# EAGLE library part L3GD20_SET (library L3GD20_set)
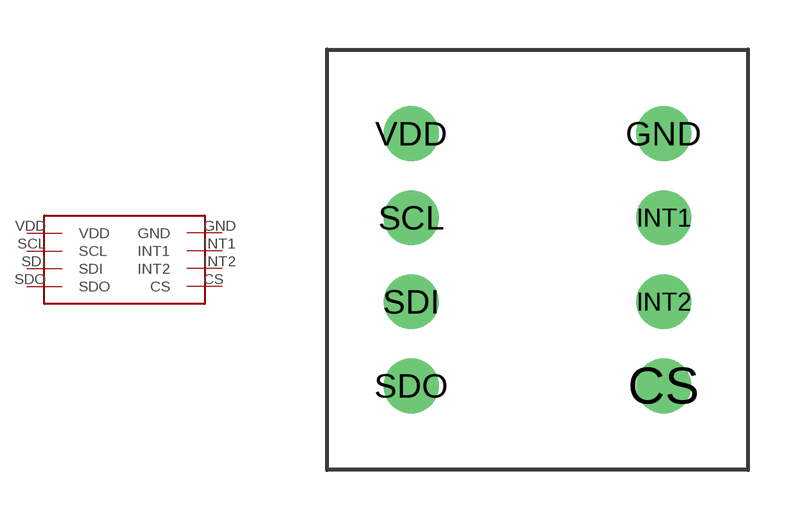
[diagram p0: symbol with the pads of L3GD20_SET; footprint L3GD20_SET]

Designator prefix -

## L3GD20_SET  [L3GD20_SET]
CS  CS
GND  GND
INT1  INT1
INT2  INT2
SCL  SCL
SDI  SDI
SDO  SDO
VDD  VDD

## Footprint L3GD20_SET (pad centres in mm)
drill 1.1: CS 10.16,2.54; GND 10.16,10.16; INT1 10.16,7.62; INT2 10.16,5.08; SCL 2.54,7.62; SDI 2.54,5.08; SDO 2.54,2.54; VDD 2.54,10.16